# EAGLE library part 6861XX148922_686112148922 (library WR-FPC)
WR-FPC 1.00 mm SMT ZIF Horizontal - Bottom Contact - Hinge Type KIND PROPERTIES Pitch 1 mm MATERIAL PROPERTIES Insulator Material PA6T Contact Material Phosphor Bronze Contact Plating 120 (µ") Tin over 50 (µ") Nickel Contact Type Stamped Solder Tabs Brass <https://www.we-online.com/catalog/media/o58875v209%20Family_Con_FPC_ZIF_100_6861xx148922.jpg> Details see: https://www.we-online.com/catalog/en/FPC_1_00_SMT_ZIF_HORIZONTAL_BOTTOM_CONTACT_HINGE_TYPE_6861XX148922/ Updated by Ella Wu 2020-08-26 2020(C) Wurth Elektronik
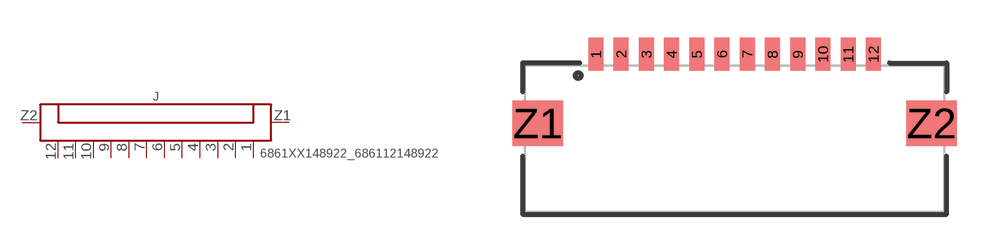
[diagram p49: symbol with the pads of 686112148922; footprint 686112148922]

Designator prefix J

## 6861XX148922_686112148922 (CONTACT-RESISTANCE: 50mOhm; DATASHEET-URL: https://www.we-online.com/redexpert/spec/686112148922?ae; IR: 1A; L: 16.6mm; MATE-WITH: WR-FFC 1.00 mm Flat Flexible Cable Type 1 (Contacts on same side)/ Type 2 (Contacts opposite); PACKAGING: Tape and Reel; PART-NUMBER: 686112148922; PINS: 12; PITCH: 1mm; TYPE: Horizontal; VALUE: 686112148922; WORKING-VOLTAGE: 100V(AC))  [686112148922]
1  1  pas
2  2  pas
3  3  pas
4  4  pas
5  5  pas
6  6  pas
7  7  pas
8  8  pas
9  9  pas
10  10  pas
11  11  pas
12  12  pas
Z1  Z1  pas
Z2  Z2  pas

## Footprint 686112148922 (pad centres in mm)
WR-FPC 1.00 mm SMT ZIF Horizontal - Bottom Contact - Hinge Type,12Pins
smd 0.6 x 1.3: 1 -5.5,3.35; 2 -4.5,3.35; 3 -3.5,3.35; 4 -2.5,3.35; 5 -1.5,3.35; 6 -0.5,3.35; 7 0.5,3.35; 8 1.5,3.35; 9 2.5,3.35; 10 3.5,3.35; 11 4.5,3.35; 12 5.5,3.35
smd 2 x 1.8: Z1 -7.8,0.6; Z2 7.8,0.6